# Altium footprint library CAP.PcbLib: 13 footprints
Each footprint in its own frame and in the unit in brackets; x right, y up, seen from the top. Pads: shape width x height; smd on the part's side, far side on the other; paste and mask are expansions set on the pad; w line width, h text height; cw(c..) or ccw(c..) is an arc to the next point about the centre after c.
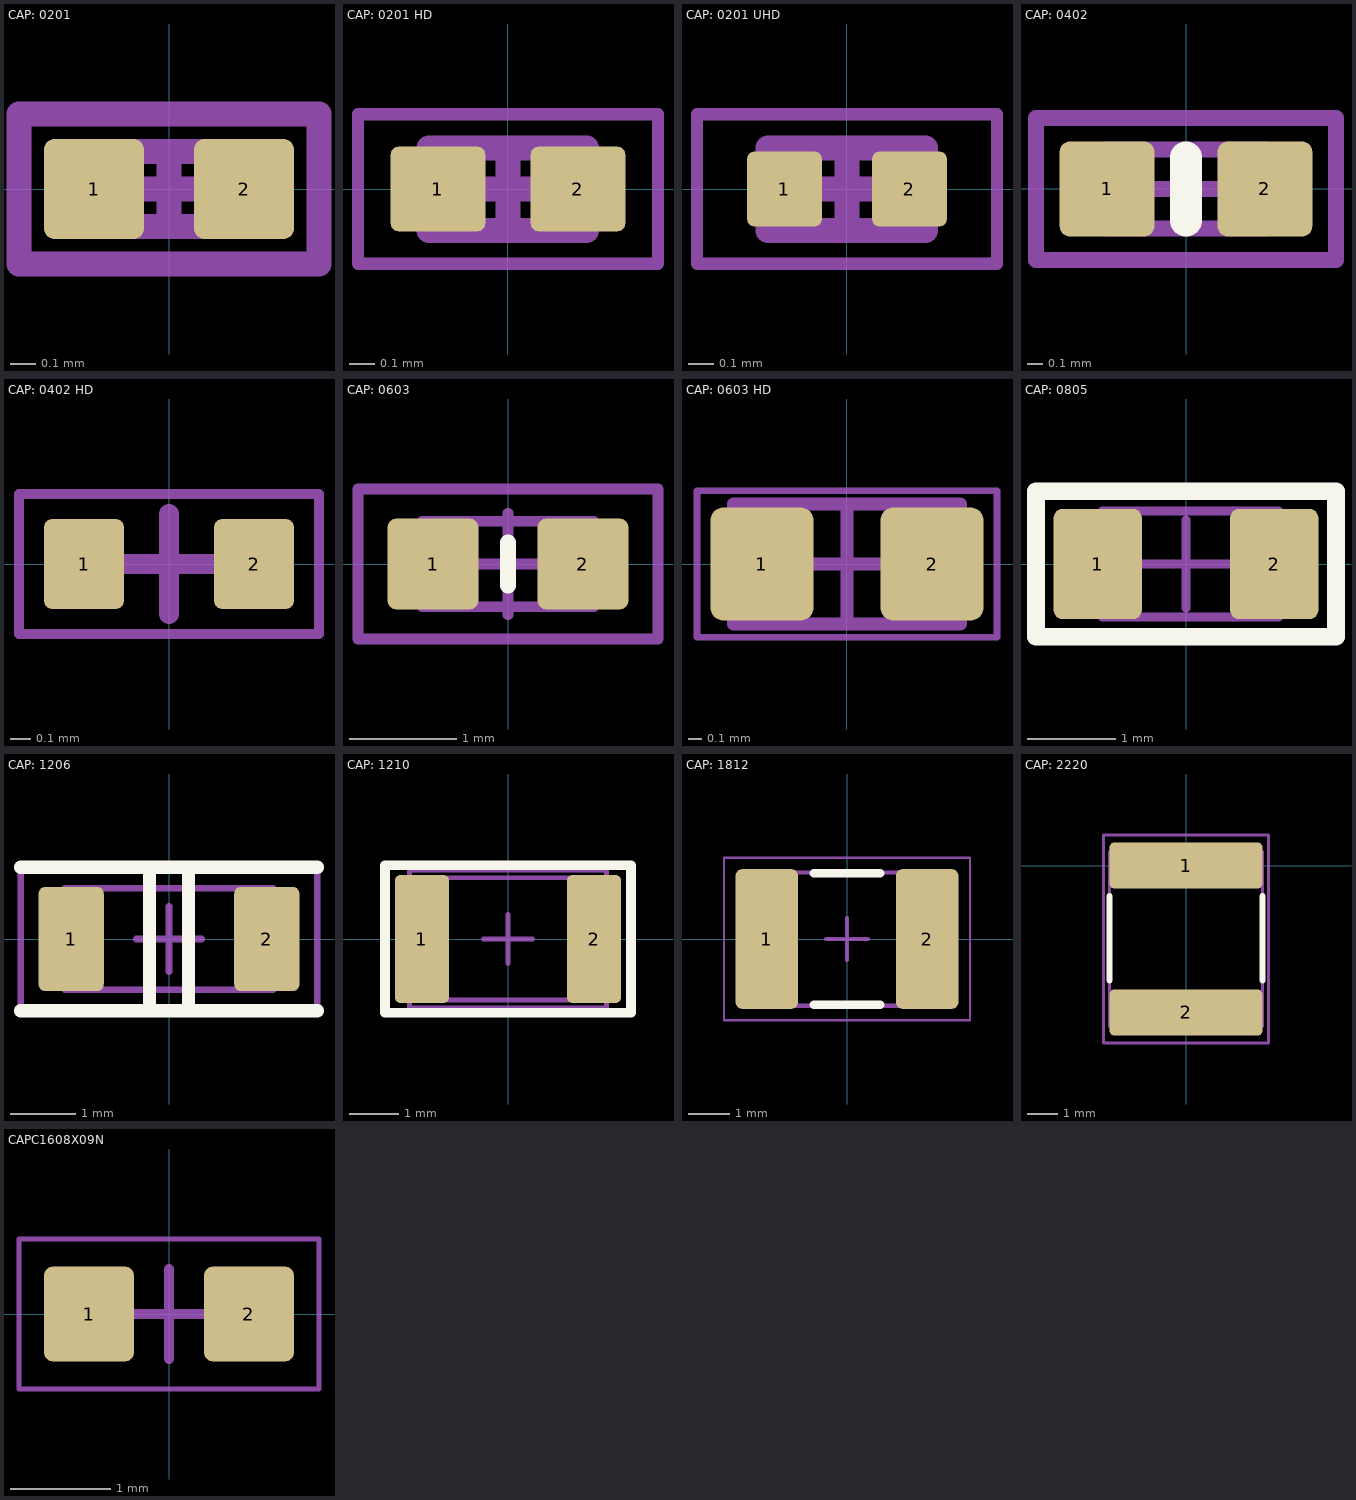
[diagram p0: the footprints below, top view; thin cyan lines are the x and y axes]

## CAP: 0201 [mm]
height 0.23
pads (2):
  rrect20% 0.4x0.4 smd: 1(-0.3,0) 2(0.3,0)
Mechanical 1:
  lines w0.1: -0.3,-0.15 -0.3,0.15 0.3,0.15 0.3,-0.15 -0.3,-0.15
Mechanical 15:
  lines w0.1: -0.15,0 0.15,0 ; 0,-0.15 0,0.15 ; -0.6,-0.3 0.6,-0.3 0.6,0.3 -0.6,0.3 -0.6,-0.3
3D body: height 0.33, standoff 0, extent -0.165,-0.165 0.165,0.165
3D body: height 0.33, standoff 0, extent -0.315,-0.165 -0.165,0.165
3D body: height 0.33, standoff 0, extent 0.165,-0.165 0.315,0.165

## CAP: 0201 HD [mm] "CAPC0603X03L Chip Capacitor, 2-Leads, Body 0.62x0.32mm, IPC High Density"
height 0.33
pads (2):
  rrect20% 0.38x0.34 smd: 1(-0.28,0) 2(0.28,0)
Top Assembly:
  lines w0.1: -0.315,-0.165 -0.315,0.165 0.315,0.165 0.315,-0.165 -0.315,-0.165
Top Courtyard:
  lines w0.05: -0.6,-0.3 -0.6,0.3 0.6,0.3 0.6,-0.3 -0.6,-0.3
  lines w0.1: -0.165,0 0.165,0 ; 0,-0.165 0,0.165
3D body: height 0.33, standoff 0, extent -0.165,-0.165 0.165,0.165
3D body: height 0.33, standoff 0, extent -0.315,-0.165 -0.165,0.165
3D body: height 0.33, standoff 0, extent 0.165,-0.165 0.315,0.165

## CAP: 0201 UHD [mm] "Chip Capacitor, 2-Leads, Body 0.62x0.32mm, IPC High Density"
height 0.33
pads (2):
  rrect20% 0.3x0.3 smd: 1(-0.25,0) 2(0.25,0)
Top Assembly:
  lines w0.1: -0.315,-0.165 0.315,-0.165 0.315,0.165 -0.315,0.165 -0.315,-0.165
Top Courtyard:
  lines w0.05: -0.6,-0.3 0.6,-0.3 0.6,0.3 -0.6,0.3 -0.6,-0.3
  lines w0.1: -0.165,0 0.165,0 ; 0,-0.165 0,0.165
3D body: height 0.33, standoff 0, extent 0.165,-0.165 0.315,0.165
3D body: height 0.33, standoff 0, extent -0.315,-0.165 -0.165,0.165
3D body: height 0.33, standoff 0, extent -0.165,-0.165 0.165,0.165

## CAP: 0402 [mm]
height 0.35
pads (2):
  rrect20% 0.6x0.6 smd: 1(-0.5,0) 2(0.5,0)
Top Overlay:
  lines w0.2: 0,-0.2 0,0.2
Mechanical 1:
  lines w0.1: -0.5,-0.25 -0.5,0.25 0.5,0.25 0.5,-0.25 -0.5,-0.25
Mechanical 15:
  lines w0.1: -0.25,0 0.25,0 ; 0,-0.25 0,0.25 ; -0.95,-0.45 -0.95,0.45 0.95,0.45 0.95,-0.45 -0.95,-0.45
3D body: height 0.4, standoff 0, extent -0.25,-0.25 0.25,0.25
3D body: height 0.4, standoff 0, extent -0.5,-0.25 -0.25,0.25
3D body: height 0.4, standoff 0, extent 0.25,-0.25 0.5,0.25

## CAP: 0402 HD [mm] "C1005X04L Chip Resistor, 2-Leads, Body 1.00x0.50mm, IPC High Density"
height 0.4
pads (2):
  rrect20% 0.4x0.45 smd: 1(-0.425,0) 2(0.425,0)
Top Courtyard:
  lines w0.05: -0.75,-0.35 -0.75,0.35 0.75,0.35 0.75,-0.35 -0.75,-0.35
  lines w0.1: -0.25,0 0.25,0 ; 0,-0.25 0,0.25
3D body: height 0.4, standoff 0, extent -0.25,-0.25 0.25,0.25
3D body: height 0.4, standoff 0, extent -0.5,-0.25 -0.25,0.25
3D body: height 0.4, standoff 0, extent 0.25,-0.25 0.5,0.25

## CAP: 0603 [mm]
height 0.45
pads (2):
  rrect20% 0.85x0.85 smd: 1(-0.7,0) 2(0.7,0)
Top Overlay:
  lines w0.15: 0,-0.2 0,0.2
Mechanical 1:
  lines w0.1: -0.8,-0.4 -0.8,0.4 0.8,0.4 0.8,-0.4 -0.8,-0.4
Top Courtyard:
  lines w0.1: -1.4,-0.7 -1.4,0.7 1.4,0.7 1.4,-0.7 -1.4,-0.7
Mechanical 15:
  lines w0.1: -0.475,0 0.475,0 ; 0,-0.475 0,0.475
3D body "cap_0603.SLDPRT": height 0.8, standoff 0, extent -0.8,-0.4 0.8,0.4

## CAP: 0603 HD [mm] "CAPC1608X90L Chip Capacitor, 2-Leads, Body 1.60x0.80mm, IPC High Density"
height 0.9
pads (2):
  rrect25% 0.775x0.85 smd: 1(-0.637,0) 2(0.638,0)
Top Assembly:
  lines w0.1: -0.85,-0.45 -0.85,0.45 0.85,0.45 0.85,-0.45 -0.85,-0.45
Top Courtyard:
  lines w0.05: -1.125,-0.55 -1.125,0.55 1.125,0.55 1.125,-0.55 -1.125,-0.55
Top Designator:
  text ".Designator" at 0,0.188 h1
Top Component Center:
  lines w0.1: -0.45,0 0.45,0 ; 0,-0.45 0,0.45
3D body: height 0.9, standoff 0, extent -0.4,-0.4 0.4,0.4
3D body: height 0.9, standoff 0, extent -0.8,-0.4 -0.4,0.4
3D body: height 0.9, standoff 0, extent 0.4,-0.4 0.8,0.4

## CAP: 0805 [mm]
height 0.45
pads (2):
  rrect20% 1x1.25 smd: 1(-1,0) 2(1,0)
Top Overlay:
  lines w0.2: -1.7,-0.825 1.7,-0.825 1.7,0.825 -1.7,0.825 -1.7,-0.825
Mechanical 1:
  lines w0.1: -0.949,-0.6 1.05,-0.6 1.05,0.6 -0.949,0.6 -0.949,-0.6
Top Courtyard:
  lines w0.1: -1.7,-0.825 1.7,-0.825 1.7,0.825 -1.7,0.825 -1.7,-0.825
Mechanical 15:
  lines w0.1: -0.5,0 0.5,0 ; 0,-0.5 0,0.5
3D body "cap_0805.SLDPRT": height 1.25, standoff 0, extent -1,-0.625 1,0.625

## CAP: 1206 [mm]
height 0.6
pads (2):
  rrect20% 1x1.6 smd: 1(-1.5,0) 2(1.5,0)
Top Overlay:
  lines w0.2: -2.275,-1.1 2.275,-1.1 ; -2.275,1.1 2.275,1.1 ; -0.3,-1 -0.3,1 ; 0.3,-1 0.3,1
Mechanical 1:
  lines w0.1: -1.6,-0.775 -1.6,0.775 1.6,0.775 1.6,-0.775 -1.6,-0.775
Top Courtyard:
  lines w0.1: -2.275,-1.1 -2.275,1.1 2.275,1.1 2.275,-1.1 -2.275,-1.1
Mechanical 15:
  lines w0.1: -0.5,0 0.5,0 ; 0,-0.5 0,0.5
3D body "cap_1206.SLDPRT": height 1.65, standoff 0, extent -1.6,-0.8 1.6,0.8

## CAP: 1210 [mm]
height 2.5
pads (2):
  rrect20% 1.1x2.6 smd: 1(-1.75,0) 2(1.75,0)
Top Overlay:
  lines w0.2: -2.5,-1.5 2.5,-1.5 2.5,1.5 -2.5,1.5 -2.5,-1.5
Mechanical 1:
  lines w0.1: -2,-1.244 -2,1.245 2,1.245 2,-1.244 -2,-1.244
Mechanical 15:
  lines w0.1: -0.5,0 0.5,0 ; 0,-0.5 0,0.5 ; -2,-1.4 2,-1.4 2,1.4 -2,1.4 -2,-1.4
3D body "cap_1210.SLDPRT": height 2, standoff 0, extent -1.6,-1.25 1.6,1.25

## CAP: 1812 [mm]
height 1.4
pads (2):
  rrect20% 1.5x3.35 smd: 1(-1.925,0) 2(1.925,0)
Top Overlay:
  lines w0.2: -0.8,-1.575 0.8,-1.575 ; -0.8,1.575 0.8,1.575
Mechanical 1:
  lines w0.1: -2.25,-1.6 -2.25,1.6 2.25,1.6 2.25,-1.6 -2.25,-1.6
Mechanical 15:
  lines w0.05: -2.95,-1.95 -2.95,1.95 2.95,1.95 2.95,-1.95 -2.95,-1.95
  lines w0.1: -0.5,0 0.5,0 ; 0,-0.5 0,0.5
3D body "cap_1812.SLDPRT": height 2, standoff 0, extent -1.6,-1.6 1.6,1.6

## CAP: 2220 [mm]
pads (2):
  rrect20% 5x1.5 smd: 1(0,0) 2(0,-4.8)
Top Overlay:
  lines w0.2: -2.5,-3.75 -2.5,-1 ; 2.5,-3.75 2.5,-1
Mechanical 1:
  lines w0.1: -2.5,-5.25 2.5,-5.25 2.5,0.45 -2.5,0.45 -2.5,-5.25
Mechanical 15:
  lines w0.1: -2.7,-5.8 -2.7,1 -2,1 2.7,1 2.7,-5.8 -2.7,-5.8
3D body "User Library-CAPC5750X23.STEP": height 2.3, standoff 0, extent -2.5,-5.25 2.5,0.45

## CAPC1608X09N [mm] "Chip Capacitor, 2-Leads, Body 1.60x0.80mm, IPC Medium Density"
height 0.9
pads (2):
  rrect20% 0.9x0.95 smd: 1(-0.8,0) 2(0.8,0)
Top Courtyard:
  lines w0.05: -1.5,-0.75 1.5,-0.75 1.5,0.75 -1.5,0.75 -1.5,-0.75
  lines w0.1: -0.45,0 0.45,0 ; 0,-0.45 0,0.45
3D body: height 0.9, standoff 0, extent -0.55,-0.45 0.55,0.45
3D body: height 0.9, standoff 0, extent 0.55,-0.45 0.85,0.45
3D body: height 0.9, standoff 0, extent -0.85,-0.45 -0.55,0.45